# Altium schematic symbol library IPL1.SchLib: 1 symbol
Pins are listed as number, name and electrical type; pins without a type are passive.

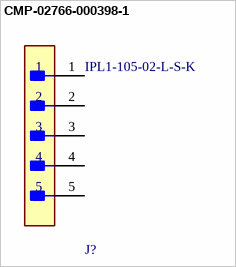
[diagram p0: symbol CMP-02766-000398-1]

## CMP-02766-000398-1
designator J?, comment IPL1-105-02-L-S-K
5 Position 1 Row .100" (2.54 mm) pitch connector; Number of Positions: 5; Max Current Rating: 7.4A; Pitch: 2.54mm; Connector Type: Male Pin; Max Voltage Rating (AC): 675V; Number of Ports: 1; Gender: Male; Termination: Solder; Min Operating Temperature: -55°C; Max Operating Temperature: 125°C; Mount: Surface Mount; Contact Material: Bronze; Housing Material: Polymer; Depth: 7.04mm; Color: Natural; REACH SVHC: No SVHC; Radiation Hardening: No; Orientation: Straight; Fastening Type: Ramp; Contact Mating Length: 0.215inch; Number of Terminals/Pins: 5; Number of Rows: 1; Packaging: Rail/Tube; Contact Plating: Gold; Length: 14.22mm; Number of Contacts: 5; Lead Free: Lead Free
footprint FP-IPL1-105-02-L-S-K-0
pins: 1, 2, 3, 4, 5